# Altium footprint library SparkFun-Connectors.PCBLIB: 312 footprints (part 19 of 20)
Each footprint in its own frame and in the unit in brackets; x right, y up, seen from the top. Pads: shape width x height; smd on the part's side, far side on the other; paste and mask are expansions set on the pad; w line width, h text height; cw(c..) or ccw(c..) is an arc to the next point about the centre after c.
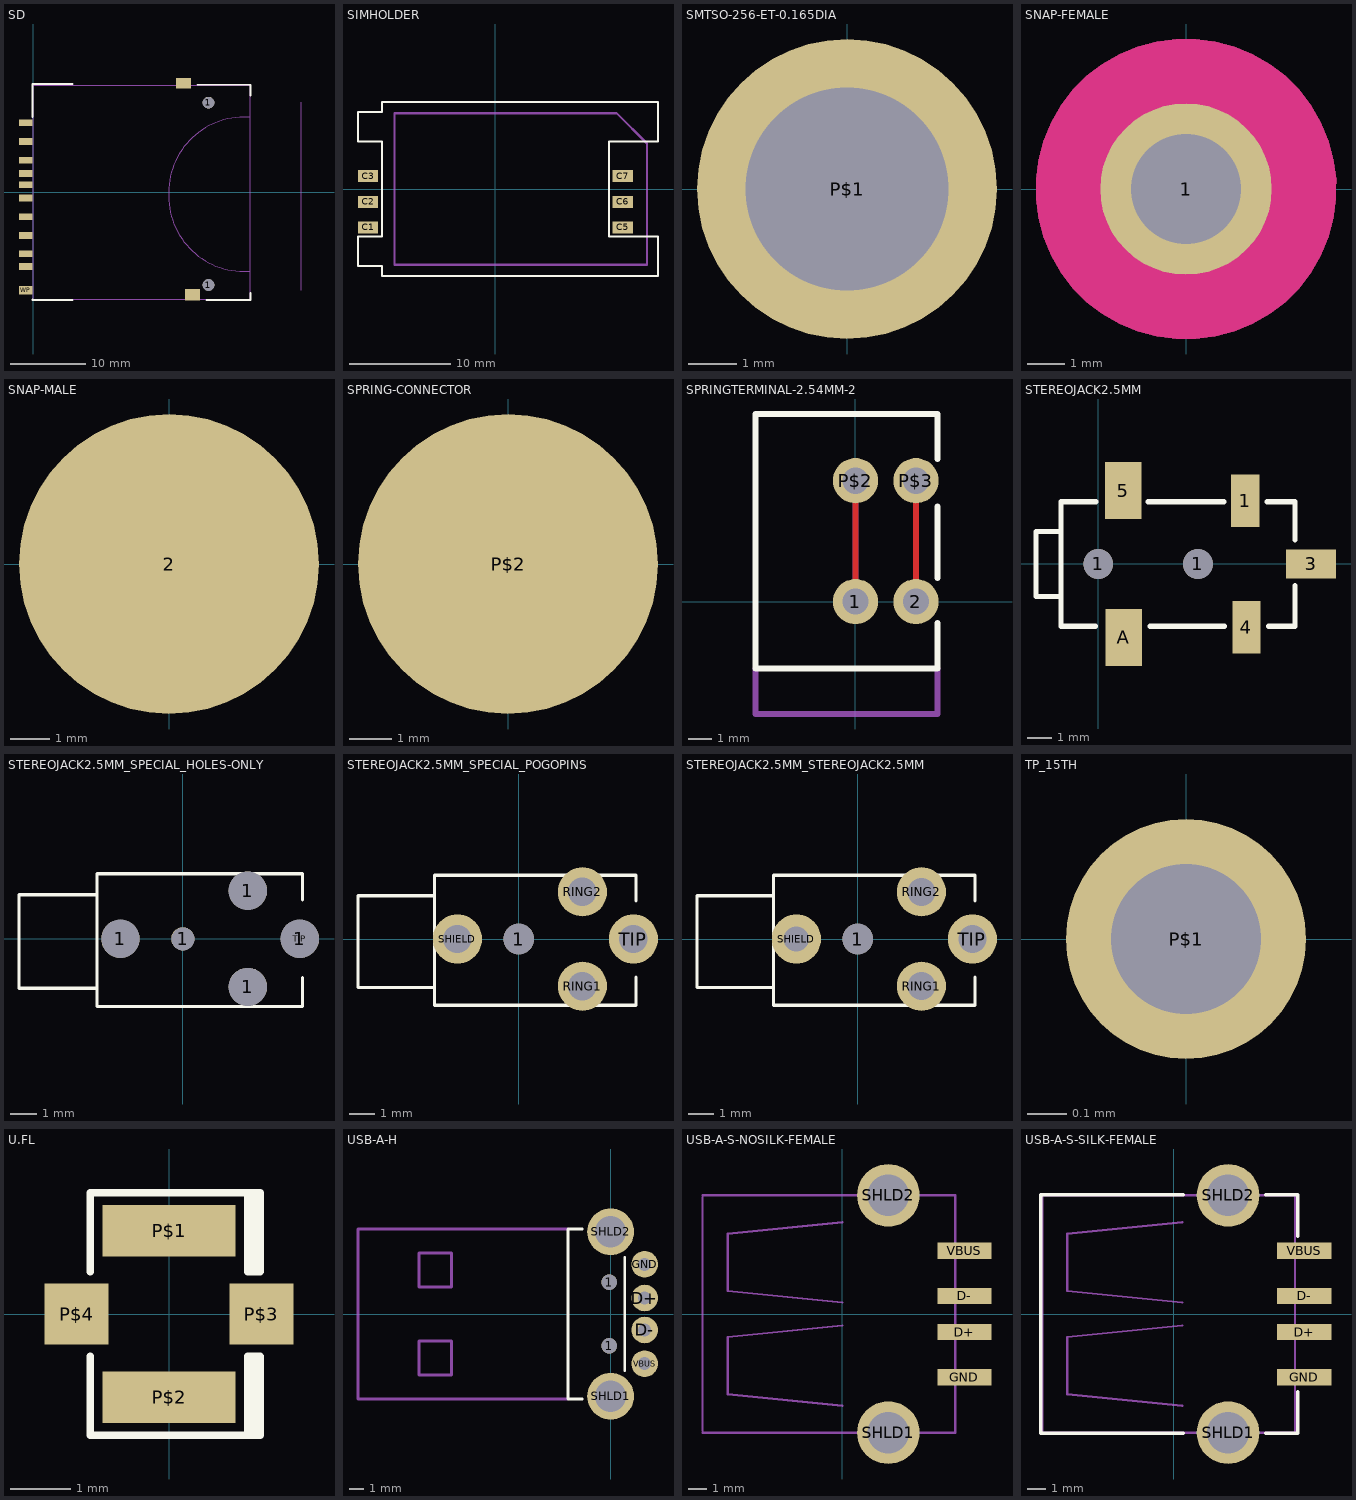
[diagram p18: the footprints below, top view; thin cyan lines are the x and y axes]

## SD [mm]
pads (15):
  rect 1.8x0.9 smd: 1(-1,6.77) 2(-1,4.27) 3(-1,2.52) 4(-1,-0.73) 5(-1,-3.23) 6(-1,-5.73) 7(-1,-8.15) 8(-1,-9.85) 9(-1,9.27) CD(-1,1.02)
  round 1.55 hole 1.55: 1(23.3,-12.32) 1(23.3,11.94)
  rect 2x1.4 smd: SH@1(20,14.496)
  rect 2x1.527 smd: SH@2(21.15,-13.589)
  rect 1.8x1.1 smd: WP(-1,-13)
Top Overlay:
  lines w0.254: -0.095,-14.238 -0.095,-14.327 5.239,-14.327 ; -0.095,10.019 -0.095,14.418 5.239,14.418 ; 21.849,14.318 28.888,14.318 28.9,12.9 ; 23.011,-14.327 28.888,-14.327 28.888,-13.349
Mechanical 16:
  lines w0.127: 35.6,-13 35.6,12 ; 28.8,-10.5 28.8,10 ; 28.8,-10.5 28.8,-14.25 0,-14.25 0,14.25 28.8,14.25 28.8,10 ; 28.8,-10.5 28,-10.5 cw(c28,-0.5) 18,-0.5 18,0 cw(c28,0) 28,10 28.8,10
  text "card lock position" at 34.9,-9.3 h1.97

## SIMHOLDER [mm]
pads (6):
  rect 2x1.2 smd: C1(-12.61,-3.81) C2(-12.61,-1.27) C3(-12.61,1.27) C5(12.61,-3.81) C6(12.61,-1.27) C7(12.61,1.27)
Top Overlay:
  lines w0.203: -13.61,-7.625 -13.61,-4.7 -11.25,-4.7 -11.25,4.7 -13.61,4.7 -13.61,7.625 -11.25,7.625 -11.25,8.6 16.09,8.6 16.09,4.7 11.25,4.7 11.25,-4.7 16.09,-4.7 16.09,-8.6 -11.25,-8.6 -11.25,-7.625 -13.61,-7.625
Mechanical 16:
  lines w0.203: -10,-7.5 -10,7.5 12,7.5 15,4.5 15,-7.5 -10,-7.5

## SMTSO-256-ET-0.165DIA [mil]
pads (1):
  round 244 hole 165: P$1(0,0)
Top Paste:
  lines w40: -90,-40 ccw(c0,0) -40,-90 ; -90,40 cw(c0,0) -40,90 ; 40,-90 ccw(c0,0) 90,-40 ; 40,90 cw(c0,0) 90,40
Mechanical 16:
  circle w5: c0,0 r40

## SNAP-FEMALE [mil]
pads (1):
  round 180 hole 115: 1(0,0)
Top Layer:
  region: -157.5,0 -157.5,10.32 -154.8,30.79 -149.46,50.73 -141.56,69.81 -131.24,87.69 -118.67,104.07 -104.07,118.67 -87.69,131.24 -69.81,141.56 -50.73,149.46 -30.79,154.8 -10.32,157.5 0,157.5 10.32,157.5 30.79,154.81 50.74,149.46 69.81,141.56 87.69,131.24 104.07,118.67 118.67,104.07 131.24,87.69 141.56,69.81 149.46,50.74 154.81,30.79 157.5,10.32 157.5,0 157.5,-10.32 154.8,-30.79 149.46,-50.73 141.56,-69.81 131.24,-87.69 118.67,-104.07 104.07,-118.67 87.69,-131.24 69.81,-141.56 50.73,-149.46 30.79,-154.8 10.32,-157.5 0,-157.5 -10.32,-157.5 -30.79,-154.8 -50.73,-149.46 -69.81,-141.56 -87.69,-131.24 -104.07,-118.67 -118.67,-104.07 -131.24,-87.69 -141.56,-69.81 -149.46,-50.73 -154.8,-30.79 -157.5,-10.32
Top Paste:
  region: -157.5,0 -157.5,10.32 -154.8,30.79 -149.46,50.73 -141.56,69.81 -131.24,87.69 -118.67,104.07 -104.07,118.67 -87.69,131.24 -69.81,141.56 -50.73,149.46 -30.79,154.8 -10.32,157.5 0,157.5 10.32,157.5 30.79,154.81 50.74,149.46 69.81,141.56 87.69,131.24 104.07,118.67 118.67,104.07 131.24,87.69 141.56,69.81 149.46,50.74 154.81,30.79 157.5,10.32 157.5,0 157.5,-10.32 154.8,-30.79 149.46,-50.73 141.56,-69.81 131.24,-87.69 118.67,-104.07 104.07,-118.67 87.69,-131.24 69.81,-141.56 50.73,-149.46 30.79,-154.8 10.32,-157.5 0,-157.5 -10.32,-157.5 -30.79,-154.8 -50.73,-149.46 -69.81,-141.56 -87.69,-131.24 -104.07,-118.67 -118.67,-104.07 -131.24,-87.69 -141.56,-69.81 -149.46,-50.73 -154.8,-30.79 -157.5,-10.32
Top Solder:
  region: -157.5,0 -157.5,10.32 -154.81,30.79 -149.46,50.74 -141.56,69.81 -131.24,87.69 -118.67,104.07 -104.07,118.67 -87.69,131.24 -69.81,141.56 -50.74,149.46 -30.79,154.81 -10.32,157.5 0,157.5 10.32,157.5 30.79,154.81 50.74,149.46 69.81,141.56 87.69,131.24 104.07,118.67 118.67,104.07 131.24,87.69 141.56,69.81 149.46,50.74 154.81,30.79 157.5,10.32 157.5,0 157.5,-10.32 154.8,-30.79 149.46,-50.73 141.56,-69.81 131.24,-87.69 118.67,-104.07 104.07,-118.67 87.69,-131.24 69.81,-141.56 50.73,-149.46 30.79,-154.8 10.32,-157.5 0,-157.5 -10.32,-157.5 -30.79,-154.8 -50.73,-149.46 -69.81,-141.56 -87.69,-131.24 -104.07,-118.67 -118.67,-104.07 -131.24,-87.69 -141.56,-69.81 -149.46,-50.73 -154.8,-30.79 -157.5,-10.32
Mechanical 8 keep-out:
  region: -157.5,0 -157.5,10.32 -154.8,30.79 -149.46,50.73 -141.56,69.81 -131.24,87.69 -118.67,104.07 -104.07,118.67 -87.69,131.24 -69.81,141.56 -50.73,149.46 -30.79,154.8 -10.32,157.5 0,157.5 10.32,157.5 30.79,154.81 50.74,149.46 69.81,141.56 87.69,131.24 104.07,118.67 118.67,104.07 131.24,87.69 141.56,69.81 149.46,50.74 154.81,30.79 157.5,10.32 157.5,0 157.5,-10.32 154.8,-30.79 149.46,-50.73 141.56,-69.81 131.24,-87.69 118.67,-104.07 104.07,-118.67 87.69,-131.24 69.81,-141.56 50.73,-149.46 30.79,-154.8 10.32,-157.5 0,-157.5 -10.32,-157.5 -30.79,-154.8 -50.73,-149.46 -69.81,-141.56 -87.69,-131.24 -104.07,-118.67 -118.67,-104.07 -131.24,-87.69 -141.56,-69.81 -149.46,-50.73 -154.8,-30.79 -157.5,-10.32

## SNAP-MALE [mil]
pads (1):
  rrect100% 300x300 smd: 2(0,0)

## SPRING-CONNECTOR [mil]
pads (1):
  rrect100% 280x280 smd: P$2(0,0)

## SPRINGTERMINAL-2.54MM-2 [mil]
pads (4):
  round 74.8 hole 43.31: 1(0,0) 2(100,0) P$2(0,200) P$3(100,200)
Top Layer:
  lines w10: 0,0 0,200 ; 100,0 100,200
Bottom Layer:
  lines w10: 0,0 0,200 ; 100,0 100,200
Top Overlay:
  lines w10: 135.43,-35.43 135.43,-110.24 -165.35,-110.24 -165.35,310.24 135.43,310.24 135.43,236.22 ; 135.43,39.37 135.43,157.48
Mechanical 16:
  lines w10: -165.35,-110.24 -165.35,-185.83 135.43,-185.83 135.43,-110.24

## STEREOJACK2.5MM [mm]
pads (7):
  round 1.2 hole 1.2: 1(0,0) 1(4,0)
  rect 1.145x2.1 smd: 1(5.898,2.54)
  rect 1.998x1.17 smd: 3(8.55,0)
  rect 1.119x2.1 smd: 4(5.949,-2.54)
  rect 1.467x2.3 smd: 5(1,2.951) A(1.016,-2.951)
Top Overlay:
  lines w0.203: -0.121,-2.5 -1.5,-2.5 -1.5,-1.3 ; -0.096,2.5 -1.5,2.5 -1.5,1.3 ; 1.996,2.5 5.052,2.5 ; 2.073,-2.5 5.077,-2.5 ; 6.773,2.5 7.9,2.5 7.9,0.974 ; 6.848,-2.5 7.9,-2.5 7.9,-0.873 ; -1.5,-1.3 -1.5,1.3 ; -1.5,-1.3 -2.5,-1.3 -2.5,1.3 -1.5,1.3

## STEREOJACK2.5MM_SPECIAL_HOLES-ONLY [mil]
pads (9):
  round 58 hole 58: 1(-94.49,0) 1(98.43,-72.83) 1(98.43,72.83) 1(177.17,0)
  round 35 hole 35: 1(0,0)
  round 32 hole 35: RING1(98.43,-72.83) RING2(98.43,72.83) SHIELD(-94.49,0) TIP(177.17,0)
Top Overlay:
  lines w5: 181.1,-59.06 181.1,-102.36 -129.92,-102.36 -129.92,-74.8 ; 181.1,59.06 181.1,98.43 -129.92,98.43 -129.92,66.93 ; -129.92,-74.8 -129.92,66.93 ; -129.92,-74.8 -248.03,-74.8 -248.03,66.93 -129.92,66.93

## STEREOJACK2.5MM_SPECIAL_POGOPINS [mil]
pads (5):
  round 47.24 hole 47.24: 1(0,0)
  round 76 hole 44: RING1(98.43,-72.83) RING2(98.43,72.83) SHIELD(-94.49,0) TIP(177.17,0)
Top Overlay:
  lines w5: 181.1,-59.06 181.1,-102.36 -129.92,-102.36 -129.92,-74.8 ; 181.1,59.06 181.1,98.43 -129.92,98.43 -129.92,66.93 ; -129.92,-74.8 -129.92,66.93 ; -129.92,-74.8 -248.03,-74.8 -248.03,66.93 -129.92,66.93

## STEREOJACK2.5MM_STEREOJACK2.5MM [mil]
pads (5):
  round 47.24 hole 47.24: 1(0,0)
  round 76 hole 43.31: RING1(98.43,-72.83) RING2(98.43,72.83) TIP(177.17,0)
  round 76 hole 39.37: SHIELD(-94.49,0)
Top Overlay:
  lines w5: 181.1,-59.06 181.1,-102.36 -129.92,-102.36 -129.92,-74.8 ; 181.1,59.06 181.1,98.43 -129.92,98.43 -129.92,66.93 ; -129.92,-74.8 -129.92,66.93 ; -129.92,-74.8 -248.03,-74.8 -248.03,66.93 -129.92,66.93

## TP_15TH [mil]
pads (1):
  round 24 hole 15: P$1(0,0)
Bottom Solder:
  circle w0: c0,0 r15

## U.FL [mm]
pads (4):
  rect 2.2x0.85 smd: P$1(0,1.375) P$2(0,-1.375)
  rect 1.05x1 smd: P$3(1.525,0) P$4(-1.525,0)
Top Overlay:
  lines w0.127: -1.3,-0.7 -1.3,-2 1.3,-2 ; -1.3,0.7 -1.3,2 1.3,2 ; 1.4,-2 1.4,-0.7 ; 1.4,0.7 1.4,2 ; 1.3,-2 1.3,-0.7 1.5,-0.7 1.5,-2 1.3,-2 ; 1.3,2 1.3,0.7 1.5,0.7 1.5,2 1.3,2

## USB-A-H [mil]
pads (8):
  round 43.31 hole 43.31: 1(-3.94,-88.58) 1(-3.94,88.58)
  round 74 hole 36: D+(94.49,44.37) D-(94.49,-44.37) GND(94.49,137.8) VBUS(94.49,-137.8)
  round 129.91 hole 86.61: SHLD1(0,-228.35) SHLD2(0,228.35)
Top Overlay:
  lines w8: -78.74,-236.22 -118.11,-236.22 -118.11,236.22 -78.74,236.22 ; 39.37,-157.48 39.37,157.48
Mechanical 16:
  lines w8: -118.11,-236.22 -700.79,-236.22 -700.79,236.22 -118.11,236.22 ; -531.5,-169.29 -531.5,-74.8 -440.94,-74.8 -440.94,-169.29 -531.5,-169.29 ; -531.5,74.8 -531.5,169.29 -440.94,169.29 -440.94,74.8 -531.5,74.8
  text "PCB Edge" at -153.54,-173.23 h77.5

## USB-A-S-NOSILK-FEMALE [mil]
pads (6):
  rect 118.11x35.43 smd: D+(265.83,-39.37) D-(265.83,39.37) GND(265.83,-137.8) VBUS(265.83,137.8)
  round 136.5 hole 91: SHLD1(100,-258.5) SHLD2(100,258.5)
Mechanical 16:
  lines w5: -305,-258.5 245.5,-258.5 ; -305,-255 -305,255 ; -305,258.5 245.5,258.5 ; 0,-200 -250,-175 -250,-50 0,-25 ; 0,25 -250,50 -250,175 0,200 ; 246,-256 246,256

## USB-A-S-SILK-FEMALE [mil]
pads (6):
  rect 118.11x35.43 smd: D+(283.94,-39.37) D-(283.94,39.37) GND(283.94,-137.8) VBUS(283.94,137.8)
  round 136.5 hole 91: SHLD1(118.11,-258.5) SHLD2(118.11,258.5)
Top Overlay:
  lines w8: 20,-260 -290,-260 -290,260 20,260 ; 200,-260 270,-260 270,-170 ; 200,260 270,260 270,170
Mechanical 16:
  lines w5: -286.89,-258.5 263.61,-258.5 ; -286.89,-255 -286.89,255 ; -286.89,258.5 263.61,258.5 ; 18.11,-200 -231.89,-175 -231.89,-50 18.11,-25 ; 18.11,25 -231.89,50 -231.89,175 18.11,200 ; 264.11,-256 264.11,256